# Altium schematic symbol library RC0402FR-0727RL.SchLib: 1 symbol
Pins are listed as number, name and electrical type; pins without a type are passive.

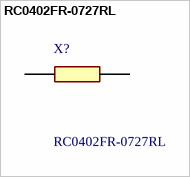
[diagram p0: symbol RC0402FR-0727RL]

## RC0402FR-0727RL
designator X?
27 Ohms +/-1% 0.063W, 1/16W Chip Resistor 0402 (1005 Metric) Moisture Resistant Thick Film ,-55C ~ 155C; Manufacturer_Name: Yageo Group; Geometry.Height: 0.4mm; Mouser Part Number: 603-RC0402FR-0727RL; Mouser Price/Stock: https://www.mouser.co.uk/ProductDetail/YAGEO/RC0402FR-0727RL?qs=UOUeRUa%252B8Wlb37UyFHw9Bw%3D%3D; Manufacturer_Part_Number: RC0402FR-0727RL; Datasheet Link: https://www.yageogroup.com/content/datasheet/asset/file/PYU-RC_GROUP_51_ROHS_L
footprint RESC1005X40N
pins: 1, 2